# Altium schematic symbol library WE-FLYTI.SchLib: 25 symbols
Pins are listed as number, name and electrical type; pins without a type are passive.

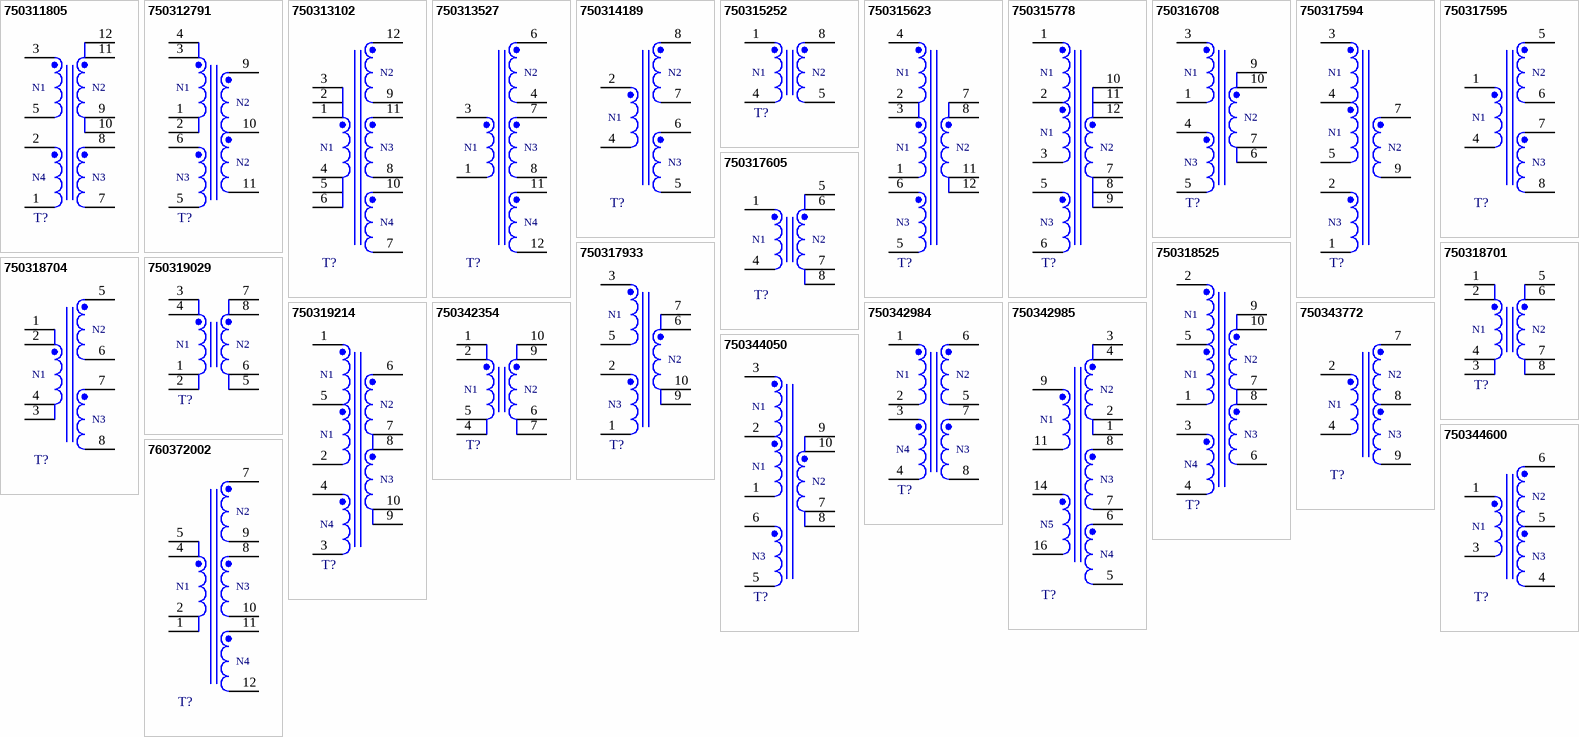
[diagram p0: symbols 750311805 to 760372002]

## 750311805
designator T?  (value not drawn)
WE-FLYTI Isolated Buck Transformer, SMT, EFD15, Ui = 36 - 57V, Uo = 12V/0.83A; Manufacturer: Wurth Elektronik; Auxiliary Voltage: 10V; Inductance: 166.5uH; Input Voltage: 36 - 57V DC; Insulation Test Voltage: 1500V AC; Leakage Inductance: 2050nH; Output Current 1: 0.83A; Output Voltage 1: 12V; Saturation Current: 1.4A; Manufacturer Part Number: 750311805; Category: Transformers For DC-DC Converter; Match Code: WE-FLYTI; ComponentLink1Description: Website Link; ComponentLink1URL: https://www.we-online.com/redexpert/article/750311805?ad; ComponentLink2Description: Datasheet Link; ComponentLink2URL: https://www.we-online.com/redexpert/spec/750311805?ad; Mount: Surface Mount; Operating Temperature Max: 125°C; Operating Temperature Min: -40°C; Packaging: Tape and Reel; Case/Size Code: EFD15
footprint EFD15_750311805
pins: 1, 2, 3, 5, 7, 8, 9, 10, 11, 12
text: N1; N2; N4; N3

## 750312791
designator T?  (value not drawn)
WE-FLYTI Isolated Buck Transformer, SMT, EFD20, Ui = 9 - 57V, Uo = 56V/0.35A; Manufacturer: Wurth Elektronik; Auxiliary Voltage: 12V; Inductance: 10uH; Input Voltage: 9 - 57V DC; Insulation Test Voltage: 1500V AC; Leakage Inductance: 100nH; Output Current 1: 0.35A; Output Voltage 1: 56V; Saturation Current: 8.75A; Manufacturer Part Number: 750312791; Category: Transformers For DC-DC Converter; Match Code: WE-FLYTI; ComponentLink1Description: Website Link; ComponentLink1URL: https://www.we-online.com/redexpert/article/750312791?ad; ComponentLink2Description: Datasheet Link; ComponentLink2URL: https://www.we-online.com/redexpert/spec/750312791?ad; Mount: Surface Mount; Operating Temperature Max: 125°C; Operating Temperature Min: -40°C; Packaging: Tape and Reel; Case/Size Code: EFD20
footprint EFD20_750312791
pins: 1, 2, 3, 4, 5, 6, 9, 10, 11
text: N1; N2; N3

## 750313102
designator T?  (value not drawn)
WE-FLYTI Isolated Buck Transformer, SMT, EFD20, Ui = 10 - 32V, Uo = 48V/0.5A; Manufacturer: Wurth Elektronik; Inductance: 12uH; Input Voltage: 10 - 32V DC; Insulation Test Voltage: 1500V AC; Leakage Inductance: 540nH; Output Current 1: 0.5A; Output Voltage 1: 48V; Saturation Current: 11.5A; Manufacturer Part Number: 750313102; Category: Transformers For DC-DC Converter; Match Code: WE-FLYTI; ComponentLink1Description: Website Link; ComponentLink1URL: https://www.we-online.com/redexpert/article/750313102?ad; ComponentLink2Description: Datasheet Link; ComponentLink2URL: https://www.we-online.com/redexpert/spec/750313102?ad; Mount: Surface Mount; Operating Temperature Max: 125°C; Operating Temperature Min: -40°C; Packaging: Tape and Reel; Case/Size Code: EFD20
footprint EFD20_750313102
pins: 1, 2, 3, 4, 5, 6, 7, 8, 9, 10, 11, 12
text: N2; N1; N3; N4

## 750313527
designator T?  (value not drawn)
WE-FLYTI Isolated Buck Transformer, SMT, EFD15, Ui = 4.5 - 16V, Uo1 = 3.3V/0.06A, Uo2 = 5V/0.06A, Uo3 = 18V/0.06A; Manufacturer: Wurth Elektronik; Inductance: 10uH; Input Voltage: 4.5 - 16V DC; Insulation Test Voltage: 2500V AC; Leakage Inductance: 400nH; Output Current 1: 0.06A; Output Voltage 1: 3.3V; Output Voltage 2: 5V; Output Voltage 3: 18V; Saturation Current: 5.8A; Manufacturer Part Number: 750313527; Category: Transformers For DC-DC Converter; Match Code: WE-FLYTI; ComponentLink1Description: Website Link; ComponentLink1URL: https://www.we-online.com/redexpert/article/750313527?ad; ComponentLink2Description: Datasheet Link; ComponentLink2URL: https://www.we-online.com/redexpert/spec/750313527?ad; Mount: Surface Mount; Operating Temperature Max: 125°C; Operating Temperature Min: -40°C; Packaging: Tape and Reel; Case/Size Code: EFD15; Output Current 2: 0.06A; Output Current 3: 0.06A
footprint EFD15_750313527
pins: 1, 3, 4, 6, 7, 8, 11, 12
text: N2; N1; N3; N4

## 750314189
designator T?  (value not drawn)
WE-FLYTI Isolated Buck Transformer, SMT, EP7, Ui = 3 - 6V, Uo = 5V/0.2A; Manufacturer: Wurth Elektronik; Inductance: 2.5uH; Input Voltage: 3 - 6V DC; Insulation Test Voltage: 2500V AC; Leakage Inductance: 650nH; Output Current 1: 0.2A; Output Voltage 1: 5V; Manufacturer Part Number: 750314189; Category: Transformers For DC-DC Converter; Match Code: WE-FLYTI; ComponentLink1Description: Website Link; ComponentLink1URL: https://www.we-online.com/redexpert/article/750314189?ad; ComponentLink2Description: Datasheet Link; ComponentLink2URL: https://www.we-online.com/redexpert/spec/750314189?ad; Mount: Surface Mount; Operating Temperature Max: 125°C; Operating Temperature Min: -40°C; Packaging: Tape and Reel; Case/Size Code: EP7
footprint EP7_750314189
pins: 2, 4, 5, 6, 7, 8
text: N2; N1; N3

## 750315252
designator T?  (value not drawn)
WE-FLYTI Isolated Buck Transformer, THT, EFD20, Ui = 24 - 48V, Uo = 24V/1A; Manufacturer: Wurth Elektronik; Inductance: 60uH; Input Voltage: 24 - 48V DC; Insulation Test Voltage: 3000V AC; Leakage Inductance: 1500nH; Output Current 1: 1A; Output Voltage 1: 24V; Saturation Current: 3.8A; Manufacturer Part Number: 750315252; Category: Transformers For DC-DC Converter; Match Code: WE-FLYTI; ComponentLink1Description: Website Link; ComponentLink1URL: https://www.we-online.com/redexpert/article/750315252?ad; ComponentLink2Description: Datasheet Link; ComponentLink2URL: https://www.we-online.com/redexpert/spec/750315252?ad; Mount: Through Hole; Operating Temperature Max: 125°C; Operating Temperature Min: -40°C; Packaging: Tray; Case/Size Code: EFD20
footprint EFD20_750315252
pins: 1, 4, 5, 8
text: N1; N2

## 750315623
designator T?  (value not drawn)
WE-FLYTI Isolated Buck Transformer, SMT, EFD25, Ui = 25 - 520V, Uo = 24V/1.25A; Manufacturer: Wurth Elektronik; Auxiliary Voltage: 24V; Inductance: 100uH; Input Voltage: 25 - 520V DC; Insulation Test Voltage: 1772V AC; Leakage Inductance: 1400nH; Output Current 1: 1.25A; Saturation Current: 4.8A; Manufacturer Part Number: 750315623; Category: Transformers For DC-DC Converter; Match Code: WE-FLYTI; ComponentLink1Description: Website Link; ComponentLink1URL: https://www.we-online.com/redexpert/article/750315623?ad; ComponentLink2Description: Datasheet Link; ComponentLink2URL: https://www.we-online.com/redexpert/spec/750315623?ad; Mount: Surface Mount; Operating Temperature Max: 125°C; Operating Temperature Min: -40°C; Packaging: Tape and Reel; Case/Size Code: EFD25; Output Voltage 1: 24V
footprint EFD25_750315623
pins: 1, 2, 3, 4, 5, 6, 7, 8, 11, 12
text: N1; N2; N3

## 750315778
designator T?  (value not drawn)
WE-FLYTI Isolated Buck Transformer, SMT, EFD25, Ui = 42.5 - 57V, Uo = 12V/4.3A; Manufacturer: Wurth Elektronik; Auxiliary Voltage: 12V; Inductance: 62uH; Input Voltage: 42.5 - 57V DC; Insulation Test Voltage: 1500V AC; Leakage Inductance: 836nH; Output Current 1: 4.3A; Saturation Current: 5.2A; Manufacturer Part Number: 750315778; Category: Transformers For DC-DC Converter; Match Code: WE-FLYTI; ComponentLink1Description: Website Link; ComponentLink1URL: https://www.we-online.com/redexpert/article/750315778?ad; ComponentLink2Description: Datasheet Link; ComponentLink2URL: https://www.we-online.com/redexpert/spec/750315778?ad; Mount: Surface Mount; Operating Temperature Max: 125°C; Operating Temperature Min: -40°C; Packaging: Tape and Reel; Case/Size Code: EFD25; Output Voltage 1: 12V
footprint EFD25_750315778
pins: 1, 2, 3, 5, 6, 7, 8, 9, 10, 11, 12
text: N1; N2; N3

## 750316708
designator T?  (value not drawn)
WE-FLYTI Isolated Buck Transformer, THT, EFD25, Ui = 12 - 60V, Uo = 12V/3A; Manufacturer: Wurth Elektronik; Auxiliary Voltage: 12V; Inductance: 42uH; Input Voltage: 12 - 60V DC; Insulation Test Voltage: 1000V AC; Leakage Inductance: 750nH; Output Current 1: 3A; Saturation Current: 7A; Manufacturer Part Number: 750316708; Category: Transformers For DC-DC Converter; Match Code: WE-FLYTI; ComponentLink1Description: Website Link; ComponentLink1URL: https://www.we-online.com/redexpert/article/750316708?ad; ComponentLink2Description: Datasheet Link; ComponentLink2URL: https://www.we-online.com/redexpert/spec/750316708?ad; Mount: Through Hole; Operating Temperature Max: 125°C; Operating Temperature Min: -40°C; Packaging: Tray; Case/Size Code: EFD25; Output Voltage 1: 12V
footprint EFD25_750316708
pins: 1, 3, 4, 5, 6, 7, 9, 10
text: N1; N2; N3

## 750317594
designator T?  (value not drawn)
WE-FLYTI Isolated Buck Transformer, SMT, EP13, Ui = 18 - 30V, Uo = 24V/0.35A; Manufacturer: Wurth Elektronik; Auxiliary Voltage: 12V; Inductance: 20uH; Input Voltage: 18 - 30V DC; Insulation Test Voltage: 1875V AC; Leakage Inductance: 1000nH; Output Current 1: 0.35A; Output Voltage 1: 24V; Saturation Current: 6A; Manufacturer Part Number: 750317594; Category: Transformers For DC-DC Converter; Match Code: WE-FLYTI; ComponentLink1Description: Website Link; ComponentLink1URL: https://www.we-online.com/redexpert/article/750317594?ad; ComponentLink2Description: Datasheet Link; ComponentLink2URL: https://www.we-online.com/redexpert/spec/750317594?ad; Mount: Surface Mount; Operating Temperature Max: 125°C; Operating Temperature Min: -40°C; Packaging: Tape and Reel; Case/Size Code: EP13
footprint EP13_750317594
pins: 1, 2, 3, 4, 5, 7, 9
text: N1; N2; N3

## 750317595
designator T?  (value not drawn)
WE-FLYTI Isolated Buck Transformer, SMT, EP7, Ui = 8 - 65V, Uo1 = 15V/0.2A, Uo2 = 8V/0.2A; Manufacturer: Wurth Elektronik; Inductance: 30uH; Input Voltage: 8 - 65V DC; Insulation Test Voltage: 1500V AC; Leakage Inductance: 500nH; Output Current 1: 0.2A; Output Voltage 1: 15V; Output Voltage 2: 8V; Saturation Current: 2.4A; Manufacturer Part Number: 750317595; Category: Transformers For DC-DC Converter; Match Code: WE-FLYTI; ComponentLink1Description: Website Link; ComponentLink1URL: https://www.we-online.com/redexpert/article/750317595?ad; ComponentLink2Description: Datasheet Link; ComponentLink2URL: https://www.we-online.com/redexpert/spec/750317595?ad; Mount: Surface Mount; Operating Temperature Max: 125°C; Operating Temperature Min: -40°C; Packaging: Tape and Reel; Case/Size Code: EP7; Output Current 2: 0.2A
footprint EP7_750317595
pins: 1, 4, 5, 6, 7, 8
text: N2; N1; N3

## 750317605
designator T?  (value not drawn)
WE-FLYTI Isolated Buck Transformer, SMT, EP7, Ui = 12 - 70V, Uo = 5V/1A; Manufacturer: Wurth Elektronik; Inductance: 30uH; Input Voltage: 12 - 70V DC; Insulation Test Voltage: 625V AC; Leakage Inductance: 900nH; Output Current 1: 1A; Output Voltage 1: 5V; Saturation Current: 2.6A; Manufacturer Part Number: 750317605; Category: Transformers For DC-DC Converter; Match Code: WE-FLYTI; ComponentLink1Description: Website Link; ComponentLink1URL: https://www.we-online.com/redexpert/article/750317605?ad; ComponentLink2Description: Datasheet Link; ComponentLink2URL: https://www.we-online.com/redexpert/spec/750317605?ad; Mount: Surface Mount; Operating Temperature Max: 125°C; Operating Temperature Min: -40°C; Packaging: Tape and Reel; Case/Size Code: EP7
footprint EP7_750317605
pins: 1, 4, 5, 6, 7, 8
text: N1; N2

## 750317933
designator T?  (value not drawn)
WE-FLYTI Isolated Buck Transformer, SMT, EPQ13, Ui = 18 - 36V, Uo = 5V/4A; Manufacturer: Wurth Elektronik; Auxiliary Voltage: 10V; Inductance: 21uH; Input Voltage: 18 - 36V DC; Insulation Test Voltage: 1500V AC; Leakage Inductance: 300nH; Output Current 1: 4A; Output Voltage 1: 5V; Saturation Current: 6.2A; Manufacturer Part Number: 750317933; Category: Transformers For DC-DC Converter; Match Code: WE-FLYTI; ComponentLink1Description: Website Link; ComponentLink1URL: https://www.we-online.com/redexpert/article/750317933?ad; ComponentLink2Description: Datasheet Link; ComponentLink2URL: https://www.we-online.com/redexpert/spec/750317933?ad; Mount: Surface Mount; Operating Temperature Max: 125°C; Operating Temperature Min: -40°C; Packaging: Tape and Reel; Case/Size Code: EPQ13
footprint EPQ13_750317933
pins: 1, 2, 3, 5, 6, 7, 9, 10
text: N1; N2; N3

## 750318525
designator T?  (value not drawn)
WE-FLYTI Isolated Buck Transformer, SMT, EPQ13, Ui = 36 - 57V, Uo = 5V/2.4A; Manufacturer: Wurth Elektronik; Auxiliary Voltage: 10.5V; Inductance: 150uH; Input Voltage: 36 - 57V DC; Insulation Test Voltage: 1500V AC; Leakage Inductance: 1000nH; Output Current 1: 2.4A; Output Voltage 1: 5V; Saturation Current: 1.5A; Manufacturer Part Number: 750318525; Category: Transformers For DC-DC Converter; Match Code: WE-FLYTI; ComponentLink1Description: Website Link; ComponentLink1URL: https://www.we-online.com/redexpert/article/750318525?ad; ComponentLink2Description: Datasheet Link; ComponentLink2URL: https://www.we-online.com/redexpert/spec/750318525?ad; Mount: Surface Mount; Operating Temperature Max: 125°C; Operating Temperature Min: -40°C; Packaging: Tape and Reel; Case/Size Code: EPQ13
footprint EPQ13_750318525
pins: 1, 2, 3, 4, 5, 6, 7, 8, 9, 10
text: N1; N2; N3; N4

## 750318701
designator T?  (value not drawn)
WE-FLYTI Isolated Buck Transformer, SMT, EP7, Ui = 12 - 42V, Uo = 12V/1A; Manufacturer: Wurth Elektronik; Inductance: 8.6uH; Input Voltage: 12 - 42V DC; Insulation Test Voltage: 1500V AC; Leakage Inductance: 500nH; Output Current 1: 1A; Output Voltage 1: 12V; Saturation Current: 6.25A; Manufacturer Part Number: 750318701; Category: Transformers For DC-DC Converter; Match Code: WE-FLYTI; ComponentLink1Description: Website Link; ComponentLink1URL: https://www.we-online.com/redexpert/article/750318701?ad; ComponentLink2Description: Datasheet Link; ComponentLink2URL: https://www.we-online.com/redexpert/spec/750318701?ad; Mount: Surface Mount; Operating Temperature Max: 125°C; Operating Temperature Min: -40°C; Packaging: Tape and Reel; Case/Size Code: EP7
footprint EP7_750318701
pins: 1, 2, 3, 4, 5, 6, 7, 8
text: N1; N2

## 750318704
designator T?  (value not drawn)
WE-FLYTI Isolated Buck Transformer, SMT, EP7, Ui = 15 - 42V, Uo1 = 15V/0.4A, Uo2 = 8V/0.4A; Manufacturer: Wurth Elektronik; Inductance: 7uH; Input Voltage: 15 - 42V DC; Insulation Test Voltage: 500V AC; Leakage Inductance: 150nH; Output Current 1: 0.4A; Output Voltage 1: 15V; Output Voltage 2: 8V; Saturation Current: 5.7A; Manufacturer Part Number: 750318704; Category: Transformers For DC-DC Converter; Match Code: WE-FLYTI; ComponentLink1Description: Website Link; ComponentLink1URL: https://www.we-online.com/redexpert/article/750318704?ad; ComponentLink2Description: Datasheet Link; ComponentLink2URL: https://www.we-online.com/redexpert/spec/750318704?ad; Mount: Surface Mount; Operating Temperature Max: 125°C; Operating Temperature Min: -40°C; Packaging: Tape and Reel; Case/Size Code: EP7; Output Current 2: 0.4A
footprint EP7_750318704
pins: 1, 2, 3, 4, 5, 6, 7, 8
text: N2; N1; N3

## 750319029
designator T?  (value not drawn)
WE-FLYTI Isolated Buck Transformer, SMT, EP7, Ui = 15 - 42V, Uo = 12V/1A; Manufacturer: Wurth Elektronik; Inductance: 7uH; Input Voltage: 15 - 42V DC; Insulation Test Voltage: 1500V AC; Leakage Inductance: 250nH; Output Current 1: 1A; Output Voltage 1: 12V; Saturation Current: 6.4A; Manufacturer Part Number: 750319029; Category: Transformers For DC-DC Converter; Match Code: WE-FLYTI; ComponentLink1Description: Website Link; ComponentLink1URL: https://www.we-online.com/redexpert/article/750319029?ad; ComponentLink2Description: Datasheet Link; ComponentLink2URL: https://www.we-online.com/redexpert/spec/750319029?ad; Mount: Surface Mount; Operating Temperature Max: 125°C; Operating Temperature Min: -40°C; Packaging: Tape and Reel; Case/Size Code: EP7
footprint EP7_750319029
pins: 1, 2, 3, 4, 5, 6, 7, 8
text: N1; N2

## 750319214
designator T?  (value not drawn)
WE-FLYTI Isolated Buck Transformer, SMT, EPQ13, Ui = 36 - 57V, Uo = 24V/1A; Manufacturer: Wurth Elektronik; Auxiliary Voltage: 10.5V; Inductance: 65uH; Input Voltage: 36 - 57V DC; Insulation Test Voltage: 1500V AC; Leakage Inductance: 600nH; Output Current 1: 1A; Output Voltage 1: 24V; Saturation Current: 2.6A; Manufacturer Part Number: 750319214; Category: Transformers For DC-DC Converter; Match Code: WE-FLYTI; ComponentLink1Description: Website Link; ComponentLink1URL: https://www.we-online.com/redexpert/article/750319214?ad; ComponentLink2Description: Datasheet Link; ComponentLink2URL: https://www.we-online.com/redexpert/spec/750319214?ad; Mount: Surface Mount; Operating Temperature Max: 125°C; Operating Temperature Min: -40°C; Packaging: Tape and Reel; Case/Size Code: EPQ13
footprint EPQ13_750319214
pins: 1, 2, 3, 4, 5, 6, 7, 8, 9, 10
text: N1; N2; N3; N4

## 750342354
designator T?  (value not drawn)
WE-FLYTI Isolated Buck Transformer, SMT, EP13, Ui = 8 - 30V, Uo = 6V/2A; Manufacturer: Wurth Elektronik; Inductance: 12uH; Input Voltage: 8 - 30V DC; Insulation Test Voltage: 1500V AC; Leakage Inductance: 235nH; Output Current 1: 2A; Output Voltage 1: 6V; Saturation Current: 4.5A; Manufacturer Part Number: 750342354; Category: Transformers For DC-DC Converter; Match Code: WE-FLYTI; ComponentLink1Description: Website Link; ComponentLink1URL: https://www.we-online.com/redexpert/article/750342354?ad; ComponentLink2Description: Datasheet Link; ComponentLink2URL: https://www.we-online.com/redexpert/spec/750342354?ad; Mount: Surface Mount; Operating Temperature Max: 125°C; Operating Temperature Min: -40°C; Packaging: Tape and Reel; Case/Size Code: EP13
footprint EP13_750342354
pins: 1, 2, 4, 5, 6, 7, 9, 10
text: N1; N2

## 750342984
designator T?  (value not drawn)
WE-FLYTI Isolated Buck Transformer, SMT, EP7, Ui = 9 - 16V, Uo1 = 15V/0.1A, Uo2 = -15V/0.1A; Manufacturer: Wurth Elektronik; Auxiliary Voltage: 15V; Inductance: 30uH; Input Voltage: 9 - 16V DC; Insulation Test Voltage: 1500V AC; Leakage Inductance: 300nH; Output Current 1: 0.1A; Output Voltage 2: -15V; Saturation Current: 1A; Manufacturer Part Number: 750342984; Category: Transformers For DC-DC Converter; Match Code: WE-FLYTI; ComponentLink1Description: Website Link; ComponentLink1URL: https://www.we-online.com/redexpert/article/750342984?ad; ComponentLink2Description: Datasheet Link; ComponentLink2URL: https://www.we-online.com/redexpert/spec/750342984?ad; Mount: Surface Mount; Operating Temperature Max: 125°C; Operating Temperature Min: -40°C; Packaging: Tape and Reel; Case/Size Code: EP7; Output Current 2: 0.1A; Output Voltage 1: 15V
footprint EP7_750342984
pins: 1, 2, 3, 4, 5, 6, 7, 8
text: N1; N2; N4; N3

## 750342985
designator T?  (value not drawn)
WE-FLYTI Isolated Buck Transformer, SMT, EP13, Ui = 15 - 36V, Uo1 = 24V/0.5A, Uo2 = 6V/0.1A, Uo3 = 6V/0.1A; Manufacturer: Wurth Elektronik; Auxiliary Voltage: 24V; Inductance: 30uH; Input Voltage: 15 - 36V DC; Insulation Test Voltage: 1500V AC; Leakage Inductance: 600nH; Output Current 1: 0.5A; Output Current 2: 0.1A; Output Voltage 2: 6V; Saturation Current: 2.6A; Manufacturer Part Number: 750342985; Category: Transformers For DC-DC Converter; Match Code: WE-FLYTI; ComponentLink1Description: Website Link; ComponentLink1URL: https://www.we-online.com/redexpert/article/750342985?ad; ComponentLink2Description: Datasheet Link; ComponentLink2URL: https://www.we-online.com/redexpert/spec/750342985?ad; Mount: Surface Mount; Operating Temperature Max: 125°C; Operating Temperature Min: -40°C; Packaging: Tape and Reel; Case/Size Code: EP13; Output Current 3: 0.1A; Output Voltage 1: 24V; Output Voltage 3: 6V
footprint EP13_750342985
pins: 1, 2, 3, 4, 5, 6, 7, 8, 9, 11, 14, 16
text: N2; N1; N3; N5; N4

## 750343772
designator T?  (value not drawn)
WE-FLYTI Isolated Buck Transformer, THT, EE13/7/6, Ui = 24V, Uo1 = 100V/0.125A, Uo2 = -100V/0.125A; Manufacturer: Wurth Elektronik; Inductance: 13uH; Input Voltage: 24V DC; Insulation Test Voltage: 1500V AC; Leakage Inductance: 300nH; Output Current 1: 0.125A; Output Voltage 1: 100V; Output Voltage 2: -100V; Saturation Current: 0A; Manufacturer Part Number: 750343772; Category: Transformers For DC-DC Converter; Match Code: WE-FLYTI; ComponentLink1Description: Website Link; ComponentLink1URL: https://www.we-online.com/redexpert/article/750343772?ad; ComponentLink2Description: Datasheet Link; ComponentLink2URL: https://www.we-online.com/redexpert/spec/750343772?ad; Mount: Through Hole; Operating Temperature Max: 125°C; Operating Temperature Min: -40°C; Packaging: Tray; Case/Size Code: EE13/7/6; Output Current 2: 0.125A
footprint EE13/7/6_750343772
pins: 2, 4, 7, 8, 9
text: N2; N1; N3

## 750344050
designator T?  (value not drawn)
WE-FLYTI Isolated Buck Transformer, SMT, EFD25, Ui = 40 - 180V, Uo = 24V/2A; Manufacturer: Wurth Elektronik; Auxiliary Voltage: 13V; Inductance: 65uH; Input Voltage: 40 - 180V DC; Insulation Test Voltage: 2000V AC; Leakage Inductance: 1000nH; Output Current 1: 2A; Output Voltage 1: 24V; Saturation Current: 7.95A; Manufacturer Part Number: 750344050; Category: Transformers For DC-DC Converter; Match Code: WE-FLYTI; ComponentLink1Description: Website Link; ComponentLink1URL: https://www.we-online.com/redexpert/article/750344050?ad; ComponentLink2Description: Datasheet Link; ComponentLink2URL: https://www.we-online.com/redexpert/spec/750344050?ad; Mount: Surface Mount; Operating Temperature Max: 125°C; Operating Temperature Min: -40°C; Packaging: Tape and Reel; Case/Size Code: EFD25
footprint EFD25_750344050
pins: 1, 2, 3, 5, 6, 7, 8, 9, 10
text: N1; N2; N3

## 750344600
designator T?  (value not drawn)
WE-FLYTI Isolated Buck Transformer, SMT, EP7, Ui = 20 - 28V, Uo1 = 19V/0.25A, Uo2 = 6V/0.25A; Manufacturer: Wurth Elektronik; Inductance: 35uH; Input Voltage: 20 - 28V DC; Insulation Test Voltage: 1500V AC; Leakage Inductance: 1000nH; Output Current 1: 0.25A; Output Voltage 1: 19V; Output Voltage 2: 6V; Saturation Current: 1.5A; Manufacturer Part Number: 750344600; Category: Transformers For DC-DC Converter; Match Code: WE-FLYTI; ComponentLink1Description: Website Link; ComponentLink1URL: https://www.we-online.com/redexpert/article/750344600?ad; ComponentLink2Description: Datasheet Link; ComponentLink2URL: https://www.we-online.com/redexpert/spec/750344600?ad; Mount: Surface Mount; Operating Temperature Max: 125°C; Operating Temperature Min: -40°C; Packaging: Tape and Reel; Case/Size Code: EP7; Output Current 2: 0.25A
footprint EP7_750344600
pins: 1, 3, 4, 5, 6
text: N2; N1; N3

## 760372002
designator T?  (value not drawn)
WE-FLYTI Isolated Buck Transformer, SMT, EFD25, Ui = 9 - 36V, Uo1 = 5V/2.5A, Uo2 = 5V/2.5A, Uo3 = 5V/0.1A; Manufacturer: Wurth Elektronik; Inductance: 25uH; Input Voltage: 9 - 36V DC; Insulation Test Voltage: 1500V AC; Leakage Inductance: 1000nH; Output Current 1: 2.5A; Output Current 3: 0.1A; Output Voltage 1: 5V; Saturation Current: 7.5A; Manufacturer Part Number: 760372002; Category: Transformers For DC-DC Converter; Match Code: WE-FLYTI; ComponentLink1Description: Website Link; ComponentLink1URL: https://www.we-online.com/redexpert/article/760372002?ad; ComponentLink2Description: Datasheet Link; ComponentLink2URL: https://www.we-online.com/redexpert/spec/760372002?ad; Mount: Surface Mount; Operating Temperature Max: 125°C; Operating Temperature Min: -40°C; Packaging: Tape and Reel; Case/Size Code: EFD25; Output Current 2: 2.5A; Output Voltage 2: 5V; Output Voltage 3: 5V
footprint EFD25_760372002
pins: 1, 2, 4, 5, 7, 8, 9, 10, 11, 12
text: N2; N1; N3; N4